# Altium schematic symbol library fuse.schlib: 12 symbols
Pins are listed as number, name and electrical type; pins without a type are passive.

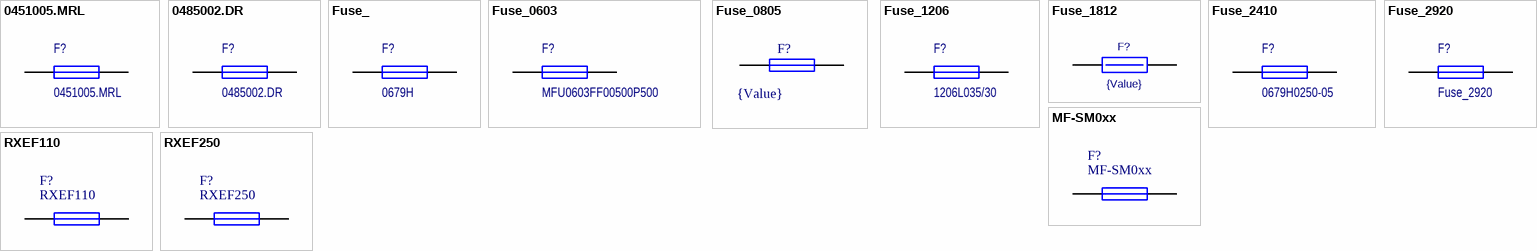
[diagram p0: symbols 0451005.MRL to RXEF250]

## 0451005.MRL
designator F?
Fuse 5A 125V
footprint 0451005.MRL (Fuse)
pins: 1, 2

## 0485002.DR
designator F?
Fuse 2A 600V
pins: 1, 2

## Fuse_
designator F?, comment 0679H
Fuse_0679H
footprint FP-0679H-MFG
pins: 1, 2

## Fuse_0603
designator F?, comment MFU0603FF00500P500
Fuse
footprint Fuse_0603
pins: 1, 2

## Fuse_0805
designator F?, comment {Value}
Fuse; Value: {Value}
footprint Fuse_0805
pins: 1, 2

## Fuse_1206
designator F?, comment 1206L035/30
Fuse
footprint FUSE_1206
pins: 1, 2

## Fuse_1812
designator F?, comment {Value}
Fuse; Value: {Value}
footprint FUSE_1812
pins: 1, 2

## Fuse_2410
designator F?, comment 0679H0250-05
Fuse
footprint FUSC6125X279N
pins: 1, 2

## Fuse_2920
designator F?
Fuse
footprint FUSE_2920
pins: 1, 2

## MF-SM0xx
designator F?
Resettable Fuse
footprint MF-SM0
pins: 1, 2

## RXEF110
designator F?
Resettable Fuse IH 1.1A, IT 2.2A; Part: RXEF110
footprint RXEF110
pins: 1, 2

## RXEF250
designator F?
Resettable Fuse; Part: RXEF250
footprint RXEF250(20x25x3mm)
pins: 1, 2